# EAGLE library part 50376-005 (library con-aces-50376-series-)
ACES CONNECTORS 50376 SERIES ACES Connecors 50376 <https://www.acesconn.com/series/50376-xxxxx-xxx/2725>
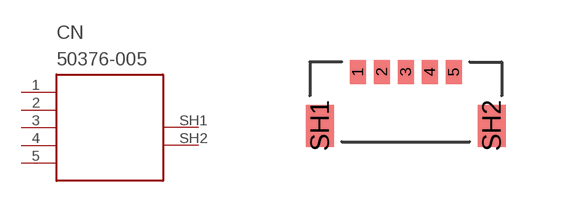
[diagram p1: symbol with the pads of 50376-005; footprint 50376-005]

Designator prefix CN

## 50376-005  [50376-005]
1  1
2  2
3  3
4  4
5  5
SH1  SH1
SH2  SH2

## Footprint 50376-005 (pad centres in mm)
smd 0.4 x 0.6: 1 -1.2,0; 2 -0.6,0; 3 0,0; 4 0.6,0; 5 1.2,0
smd 0.7 x 1.05: SH1 -2.15,-1.35; SH2 2.15,-1.35